# Altium schematic symbol library SLW-1277545-3A-RA-N-D.SchLib: 1 symbol
Pins are listed as number, name and electrical type; pins without a type are passive.

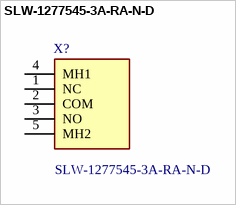
[diagram p0: symbol SLW-1277545-3A-RA-N-D]

## SLW-1277545-3A-RA-N-D
designator X?
12.7 x 7.5 x 4.5 mm, 3 mm Raised Slide Actuator, Right Angle, Through Hole, Slide Switch; Manufacturer_Name: Same Sky; Geometry.Height: 5mm; Mouser Part Number: 179-SLW12775453ARAND; Mouser Price/Stock: https://www.mouser.co.uk/ProductDetail/Same-Sky/SLW-1277545-3A-RA-N-D?qs=IKkN%2F947nfAPsk3r6TcxVw%3D%3D; Manufacturer_Part_Number: SLW-1277545-3A-RA-N-D; Datasheet Link: https://www.sameskydevices.com/product/resource/supplyframepdf/slw-1277545-3a-ra-n-d.pdf
footprint SLW12775453ARAND
pins: 1 NC, 2 COM, 3 NO, 4 MH1, 5 MH2